# EAGLE library part PCA9552 (library GW-devices)
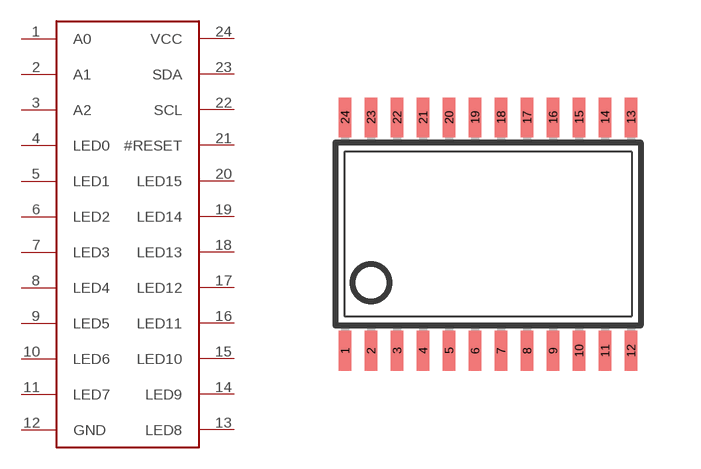
[diagram p31: symbol with the pads of TSSOP24; footprint TSSOP24]

Designator prefix -

## PCA9552 (MFGN: NXP; MFGP: PCA9552; PRICE: 2.67)  [TSSOP24]
1  A0
2  A1
3  A2
4  LED0
5  LED1
6  LED2
7  LED3
8  LED4
9  LED5
10  LED6
11  LED7
12  GND
13  LED8
14  LED9
15  LED10
16  LED11
17  LED12
18  LED13
19  LED14
20  LED15
21  #RESET
22  SCL
23  SDA
24  VCC

## Footprint TSSOP24 (pad centres in mm)
Thin Shrink Small Outline Plastic 24 MAX3223-MAX3243.pdf
smd 0.305 x 0.991: 1 -3.575,-2.918; 2 -2.925,-2.918; 3 -2.275,-2.918; 4 -1.625,-2.918; 5 -0.975,-2.918; 6 -0.325,-2.918; 7 0.325,-2.918; 8 0.975,-2.918; 9 1.625,-2.918; 10 2.275,-2.918; 11 2.925,-2.918; 12 3.575,-2.918; 13 3.575,2.918; 14 2.925,2.918; 15 2.275,2.918; 16 1.625,2.918; 17 0.975,2.918; 18 0.325,2.918; 19 -0.325,2.918; 20 -0.975,2.918; 21 -1.625,2.918; 22 -2.275,2.918; 23 -2.925,2.918; 24 -3.575,2.918